# EAGLE library part LTC3521 (library PowerProducts)
LT-Spice library generated with : ltspice.ulp from: D:/Program Files (x86)/LTC/LTspiceIV/lib/sym/PowerProducts/LTC3522*.asy at 07.10.2012 18:11:34
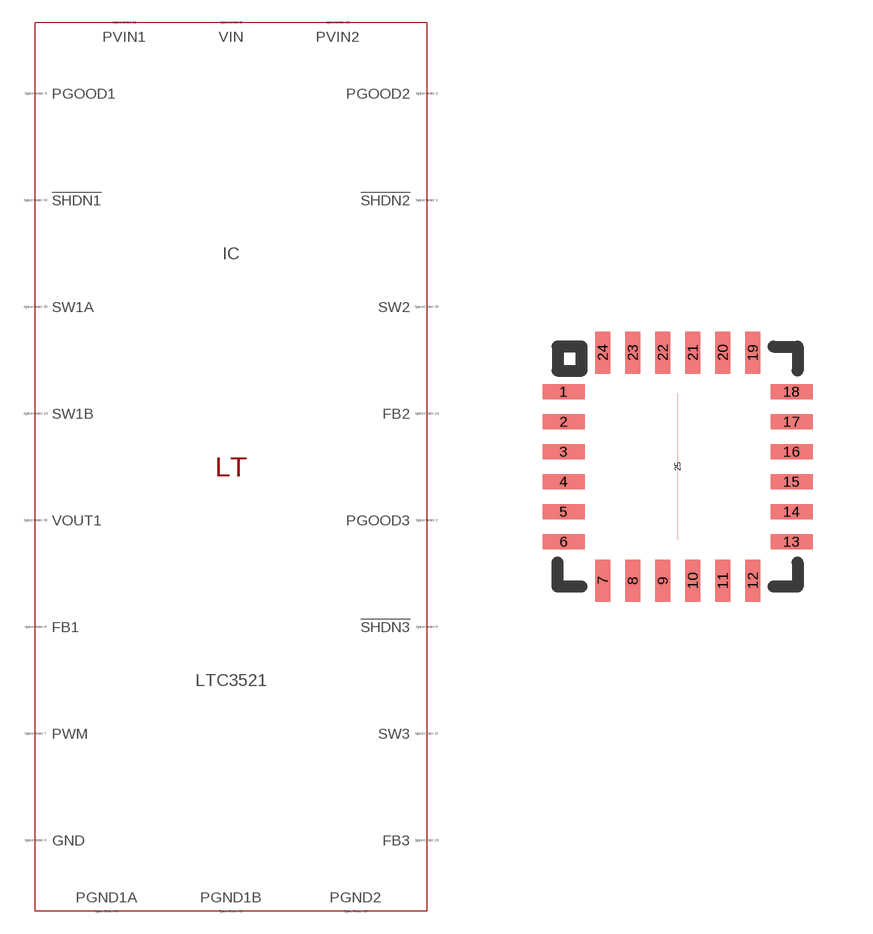
[diagram p198: symbol with the pads of QFN24(UF); footprint QFN24(UF)]

Designator prefix IC

## LTC3521 (SPICEMODEL: LTC3521.sub; SPICEPREFIX: X; VALUE2: LTC3521)  [QFN24(UF)]
1  !SHDN2  pas
2  PGOOD3  pas
3  PGOOD2  pas
4  PGOOD1  pas
5  VIN  pas
6  GND  pas
7  PWM  pas
8  FB1  pas
9  !SHDN3  pas
10  !SHDN1  pas
11  PVIN1  pas
12  PGND1B  pas
14  SW1B  pas
15  SW1A  pas
16  VOUT1  pas
17  SW3  pas
18  PGND2  pas
20  SW2  pas
21  PGND1A  pas
22  PVIN2  pas
23  FB3  pas
24  FB2  pas
25  PGND1A  pas

## Footprint QFN24(UF) (pad centres in mm)
Package generated from: QFN24(UF).asc (!PADS-POWERPCB-V5.0-BASIC! DESIGN DATABASE ASCII FILE 1.0) with :import-pads-powerpcb-v5.ulp Version 1.0.1 at 04.10.2012 14:11:24
smd 1.05 x 0.375: 1 -2.85,1.875; 2 -2.85,1.125; 3 -2.85,0.375; 4 -2.85,-0.375; 5 -2.85,-1.125; 6 -2.85,-1.875; 13 2.85,-1.875; 14 2.85,-1.125; 15 2.85,-0.375; 16 2.85,0.375; 17 2.85,1.125; 18 2.85,1.875
smd 0.375 x 1.05: 7 -1.875,-2.85; 8 -1.125,-2.85; 9 -0.375,-2.85; 10 0.375,-2.85; 11 1.125,-2.85; 12 1.875,-2.85; 19 1.875,2.85; 20 1.125,2.85; 21 0.375,2.85; 22 -0.375,2.85; 23 -1.125,2.85; 24 -1.875,2.85
smd 0 x 3.675: 25 0,0